# Altium schematic symbol library CiDLib.SchLib: 65 symbols
Pins are listed as number, name and electrical type; pins without a type are passive.

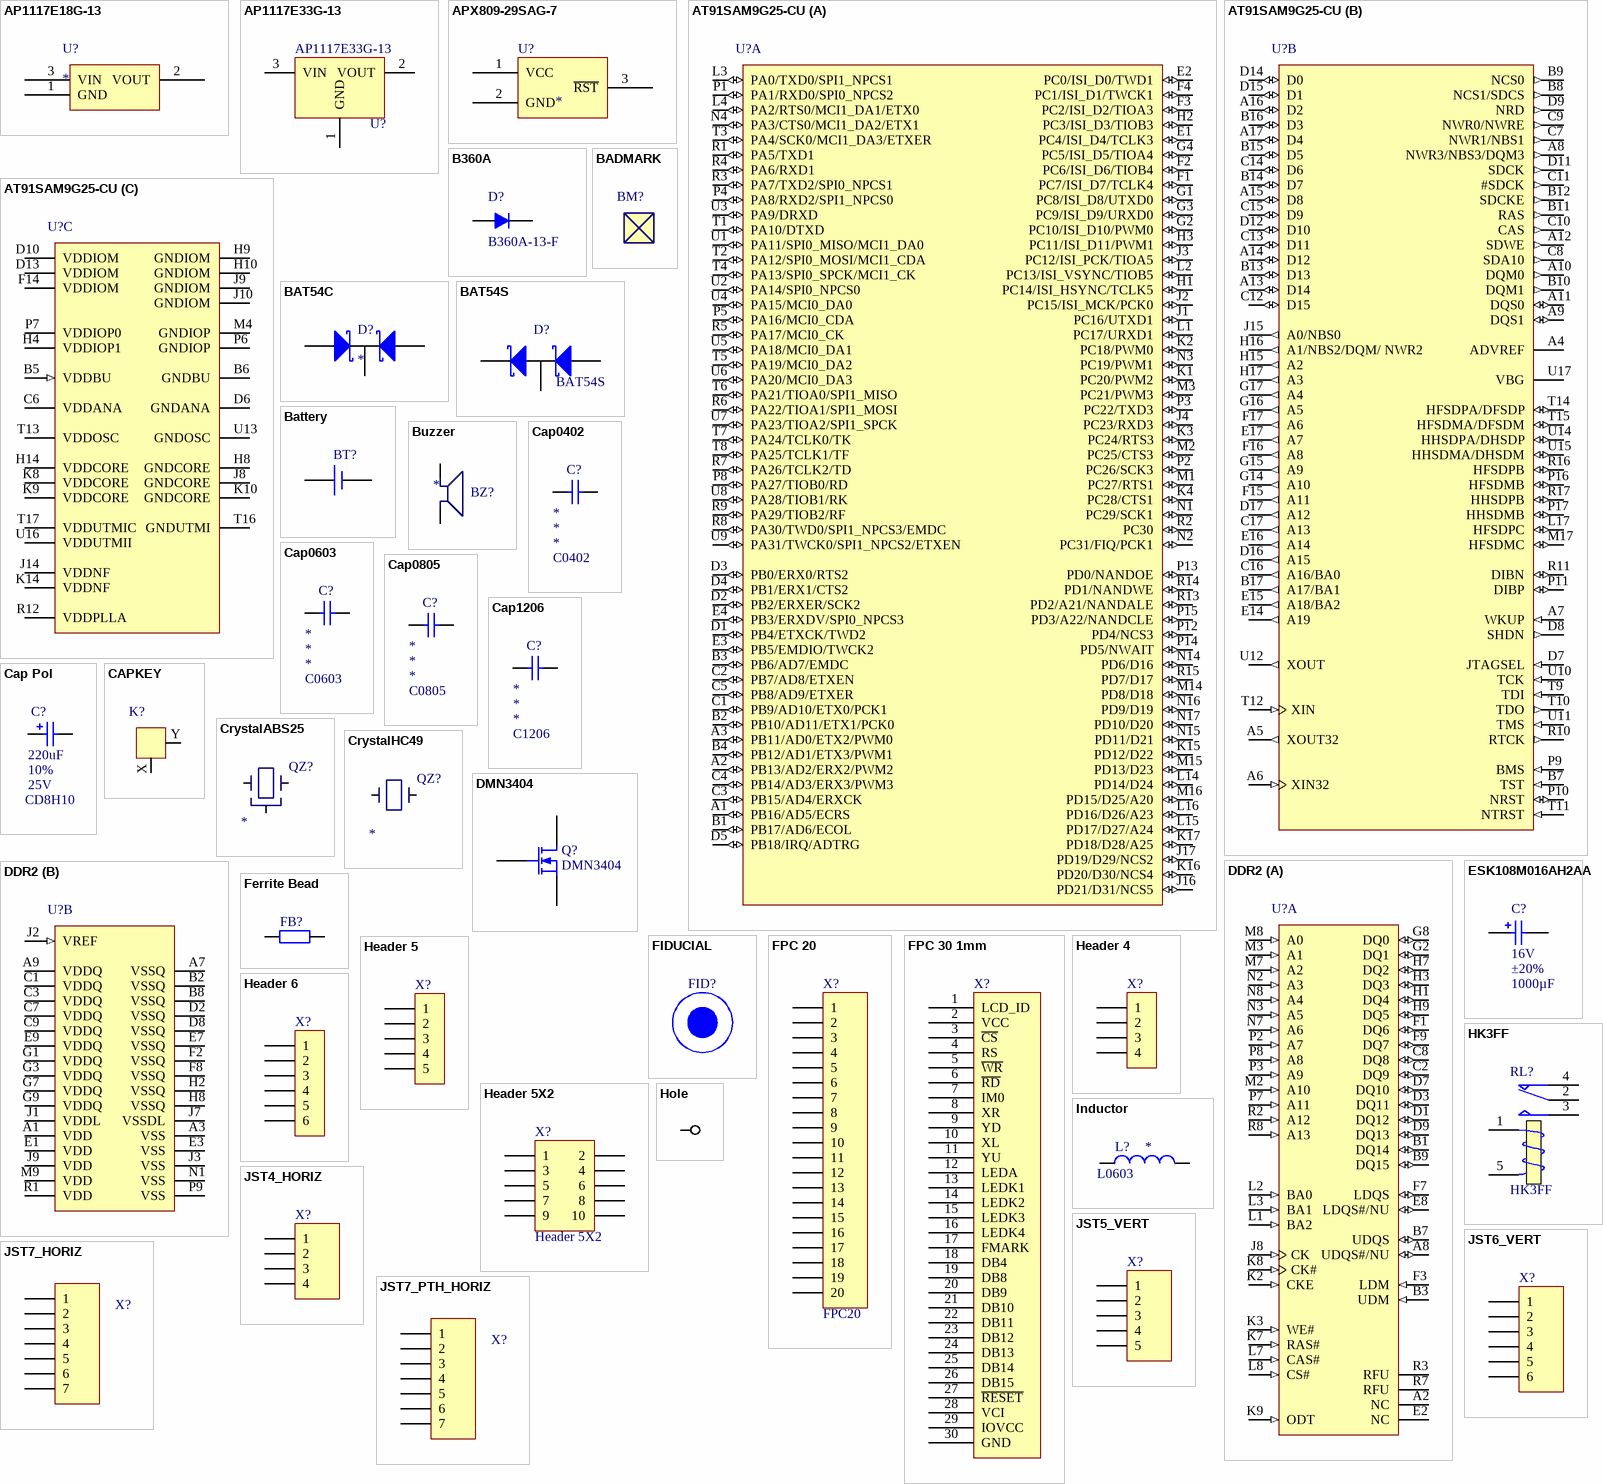
[diagram p0: symbols AP1117E18G-13 to JST7_PTH_HORIZ]

## AP1117E18G-13
designator U?
footprint SOT223 (SOT223, 4-Leads, Body 6,50x7,00mm (avg), Pitch 2,30mm, IPC Medium Density)
pins: 1 GND (power), 2 VOUT (power), 3 VIN (power)

## AP1117E33G-13
designator U?
footprint SOT223 (SOT223, 4-Leads, Body 6,50x7,00mm (avg), Pitch 2,30mm, IPC Medium Density)
pins: 1 GND (power), 2 VOUT (power), 3 VIN (power)

## APX809-29SAG-7
designator U?
Reset supervisor 2.9V
footprint SOT23-3
pins: 1 VCC (power), 2 GND (power), 3 ~{RST}

## AT91SAM9G25-CU
designator U?
AT91 ARM Thumb 32-bit Embedded MPU, 400MHz, 1V, Ethernet, HS USB, LPDDR/DDR2/MLC NAND support, 217-Pin BGA, Industrial Grade (-40°C to 85°C), Pb-Free; GROUP: G25; PackageVersion: 2011; PackageReference: LFBGA217; PackageDescription: 217-Ball Plastic Low Profile Fine-Pitch BGA, 15 x 15 mm Body, 0.8 mm Pitch; Code_JEDEC: MO-205
footprint BGA217
part A pins: A1 PB16/AD5/ECRS (io), A2 PB13/AD2/ERX2/PWM2 (io), A3 PB11/AD0/ETX2/PWM0 (io), B1 PB17/AD6/ECOL (io), B2 PB10/AD11/ETX1/PCK0 (io), B3 PB6/AD7/EMDC (io), B4 PB12/AD1/ETX3/PWM1 (io), C1 PB9/AD10/ETX0/PCK1 (io), C2 PB7/AD8/ETXEN (io), C3 PB15/AD4/ERXCK (io), C4 PB14/AD3/ERX3/PWM3 (io), C5 PB8/AD9/ETXER (io), D1 PB4/ETXCK/TWD2 (io), D2 PB2/ERXER/SCK2 (io), D3 PB0/ERX0/RTS2 (io), D4 PB1/ERX1/CTS2 (io), D5 PB18/IRQ/ADTRG (io), E1 PC4/ISI_D4/TCLK3 (io), E2 PC0/ISI_D0/TWD1 (io), E3 PB5/EMDIO/TWCK2 (io), E4 PB3/ERXDV/SPI0_NPCS3 (io), F1 PC7/ISI_D7/TCLK4 (io), F2 PC6/ISI_D6/TIOB4 (io), F3 PC2/ISI_D2/TIOA3 (io), F4 PC1/ISI_D1/TWCK1 (io), G1 PC8/ISI_D8/UTXD0 (io), G2 PC10/ISI_D10/PWM0 (io), G3 PC9/ISI_D9/URXD0 (io), G4 PC5/ISI_D5/TIOA4 (io), H1 PC14/ISI_HSYNC/TCLK5 (io), H2 PC3/ISI_D3/TIOB3 (io), H3 PC11/ISI_D11/PWM1 (io), J1 PC16/UTXD1 (io), J2 PC15/ISI_MCK/PCK0 (io), J3 PC12/ISI_PCK/TIOA5 (io), J4 PC23/RXD3 (io), J16 PD21/D31/NCS5 (io), J17 PD19/D29/NCS2 (io), K1 PC20/PWM2 (io), K2 PC18/PWM0 (io), K3 PC24/RTS3 (io), K4 PC28/CTS1 (io), K15 PD12/D22 (io), K16 PD20/D30/NCS4 (io), K17 PD18/D28/A25 (io), L1 PC17/URXD1 (io), L2 PC13/ISI_VSYNC/TIOB5 (io), L3 PA0/TXD0/SPI1_NPCS1 (io), L4 PA2/RTS0/MCI1_DA1/ETX0 (io), L14 PD14/D24 (io), L15 PD17/D27/A24 (io), L16 PD16/D26/A23 (io), M1 PC27/RTS1 (io), M2 PC25/CTS3 (io), M3 PC21/PWM3 (io), M14 PD8/D18 (io), M15 PD13/D23 (io), M16 PD15/D25/A20 (io), N1 PC29/SCK1 (io), N2 PC31/FIQ/PCK1 (io), N3 PC19/PWM1 (io), N4 PA3/CTS0/MCI1_DA2/ETX1 (io), N14 PD6/D16 (io), N15 PD11/D21 (io), N16 PD9/D19 (io), N17 PD10/D20 (io), P1 PA1/RXD0/SPI0_NPCS2 (io), P2 PC26/SCK3 (io), P3 PC22/TXD3 (io), P4 PA8/RXD2/SPI1_NPCS0 (io), P5 PA16/MCI0_CDA (io), P8 PA27/TIOB0/RD (io), P12 PD4/NCS3 (io), P13 PD0/NANDOE (io), P14 PD5/NWAIT (io), P15 PD3/A22/NANDCLE (io), R1 PA5/TXD1 (io), R2 PC30 (io), R3 PA7/TXD2/SPI0_NPCS1 (io), R4 PA6/RXD1 (io), R5 PA17/MCI0_CK (io), R6 PA22/TIOA1/SPI1_MOSI (io), R7 PA26/TCLK2/TD (io), R8 PA30/TWD0/SPI1_NPCS3/EMDC (io), R9 PA29/TIOB2/RF (io), R13 PD2/A21/NANDALE (io), R14 PD1/NANDWE (io), R15 PD7/D17 (io), T1 PA10/DTXD (io), T2 PA12/SPI0_MOSI/MCI1_CDA (io), T3 PA4/SCK0/MCI1_DA3/ETXER (io), T4 PA13/SPI0_SPCK/MCI1_CK (io), T5 PA19/MCI0_DA2 (io), T6 PA21/TIOA0/SPI1_MISO (io), T7 PA24/TCLK0/TK (io), T8 PA25/TCLK1/TF (io), U1 PA11/SPI0_MISO/MCI1_DA0 (io), U2 PA14/SPI0_NPCS0 (io), U3 PA9/DRXD (io), U4 PA15/MCI0_DA0 (io), U5 PA18/MCI0_DA1 (io), U6 PA20/MCI0_DA3 (io), U7 PA23/TIOA2/SPI1_SPCK (io), U8 PA28/TIOB1/RK (io), U9 PA31/TWCK0/SPI1_NPCS2/ETXEN (io)
part B pins: A4 ADVREF (power), A5 XOUT32 (out), A6 XIN32 (in), A7 WKUP (in), A8 NWR3/NBS3/DQM3 (out), A9 DQS1 (io), A10 DQM0 (out), A11 DQS0 (io), A12 SDWE (out), A13 D14 (io), A14 D12 (io), A15 D8 (io), A16 D2 (io), A17 D4 (io), B7 TST (in), B8 NCS1/SDCS (out), B9 NCS0 (out), B10 DQM1 (out), B11 RAS (out), B12 SDCKE (out), B13 D13 (io), B14 D7 (io), B15 D5 (io), B16 D3 (io), B17 A17/BA1 (out), C7 NWR1/NBS1 (out), C8 SDA10 (out), C9 NWR0/NWRE (out), C10 CAS (out), C11 #SDCK (out), C12 D15 (io), C13 D11 (io), C14 D6 (io), C15 D9 (io), C16 A16/BA0 (out), C17 A13 (out), D7 JTAGSEL (in), D8 SHDN (out), D9 NRD (out), D11 SDCK (out), D12 D10 (io), D14 D0 (io), D15 D1 (io), D16 A15 (out), D17 A12 (out), E14 A19 (out), E15 A18/BA2 (out), E16 A14 (out), E17 A7 (out), F15 A11 (out), F16 A8 (out), F17 A6 (out), G14 A10 (out), G15 A9 (out), G16 A5 (out), G17 A4 (out), H15 A2 (out), H16 A1/NBS2/DQM/ NWR2 (out), H17 A3 (out), J15 A0/NBS0 (out), L17 HFSDPC (io), M17 HFSDMC (io), P9 BMS (in), P10 NRST (io), P11 DIBP (io), P16 HFSDMB (io), P17 HHSDMB (io), R10 RTCK (out), R11 DIBN (io), R16 HFSDPB (io), R17 HHSDPB (io), T9 TDI (in), T10 TDO (out), T11 NTRST (in), T12 XIN (in), T14 HFSDPA/DFSDP (io), T15 HFSDMA/DFSDM (io), U10 TCK (in), U11 TMS (in), U12 XOUT (out), U14 HHSDPA/DHSDP (io), U15 HHSDMA/DHSDM (io), U17 VBG (power)
part C pins: B5 VDDBU (in), B6 GNDBU (power), C6 VDDANA (power), D6 GNDANA (power), D10 VDDIOM (power), D13 VDDIOM (power), F14 VDDIOM (power), H4 VDDIOP1 (power), H8 GNDCORE (power), H9 GNDIOM (power), H10 GNDIOM (power), H14 VDDCORE (power), J8 GNDCORE (power), J9 GNDIOM (power), J10 GNDIOM (power), J14 VDDNF (power), K8 VDDCORE (power), K9 VDDCORE (power), K10 GNDCORE (power), K14 VDDNF (power), M4 GNDIOP (power), P6 GNDIOP (power), P7 VDDIOP0 (power), R12 VDDPLLA (power), T13 VDDOSC (power), T16 GNDUTMI (power), T17 VDDUTMIC (power), U13 GNDOSC (power), U16 VDDUTMII (power)

## B360A
designator D?, comment B360A-13-F
B360A Diode; Manufacturer: Diodes Incorporated; Diode Type: Schottky; Voltage - DC Reverse (Vr) (Max): 60V; Current - Average Rectified (Io): 3A; Voltage - Forward (Vf) (Max) @ If: 700mV @ 3A; Speed: Fast Recovery =< 500ns, > 200mA (Io); Current - Reverse Leakage @ Vr: 500µA @ 60V; Capacitance @ Vr, F: 200pF @ 4V, 1MHz; Supplier 1: Digi-Key; Manufacturer Part Number: B360A-13-F; RoHS: RoHS Compliant; Category: Discrete Semiconductor Products; Stock 1: 132804; Pricing 1: 1=0.5, 10=0.394, 25=0.3324, 100=0.2708, 250=0.22424, 500=0.18526, 1000=0.13875, 2500=0.1275 (USD); Packaging: Cut Tape (CT); Reverse Recovery Time (trr): -; Mounting Type: Surface Mount; Package / Case: DO-214AC, SMA; Supplier Device Package: SMA; Operating Temperature - Junction: -55°C ~ 150°C; ComponentLink1URL: http://www.diodes.com/_files/datasheets/ds30891.pdf; ComponentLink1Description: http://www.diodes.com/_files/datasheets/ds30891.pdf; Supplier Part Number 1: B360A-FDICT-ND
footprint SMA
pins: 1 A, 2 K

## BADMARK
designator BM?  (value not drawn)
Bad Mark Indicator
footprint BADMARK

## BAT54C
designator D?
Common cathode dual Schottky diode; Supplier 1: Digi-Key; Supplier Part Number 1: BAT54C-FDITR-ND
footprint SOT23-3
pins: 1 K, 2 A1, 3 A2

## BAT54S
designator D?
DIODE ARRAY SCHOTTKY 30V SOT23
footprint SOT23-3
pins: 1 K, 2 A2, 3 A1

## Battery
designator BT?
Multicell Battery; Published: 24-Mar-1999; LatestRevisionDate: 17-Jul-2002; LatestRevisionNote: Re-released for DXP Platform.; PackageReference: BAT-2; Publisher: Altium Limited; PackageDescription: Battery; 2 Leads
footprint CR2032-SMD (CR2032 Battery holder (SMD))
pins: 1 + (power), 2 - (power)

## Buzzer
designator BZ?
Standard PTH Buzzer
footprint Buzzer
pins: 1, 2

## Cap0402
designator C?  (value not drawn)
Capacitor; Value: *; Tolerance: *; MAX VDC: *
simulation model CAP (Capacitor)
signal-integrity model Cap
footprint C0402 (Chip Capacitor, 2-Leads, Body 1,00x0,50mm, IPC Medium Density)
pins: 1, 2

## Cap0603
designator C?  (value not drawn)
Capacitor; Value: *; Tolerance: *; MAX VDC: *
simulation model CAP (Capacitor)
signal-integrity model Cap
footprint C0603 (Chip Capacitor, 2-Leads, Body 1,60x0,80mm, IPC Medium Density)
pins: 1, 2

## Cap0805
designator C?  (value not drawn)
Capacitor; Value: *; Tolerance: *; MAX VDC: *
simulation model CAP (Capacitor)
signal-integrity model Cap
footprint C0805 (Chip Capacitor, 2-Leads, Body 2,00x1,25mm, IPC Medium Density)
pins: 1, 2

## Cap1206
designator C?  (value not drawn)
Capacitor; Value: *; Tolerance: *; MAX VDC: *
simulation model CAP (Capacitor)
signal-integrity model Cap
footprint C1206 (Chip Capacitor, 2-Leads, Body 3,20x1,60mm, IPC Medium Density)
pins: 1, 2

## Cap Pol
designator C?  value 220uF  Tolerance: 10%  MAX VDC: 25V  (hidden comment: Cap Pol)
Polarized Capacitor
simulation model CAP (Capacitor)
signal-integrity model Cap Pol ([Unknown model type, plugin missing])
footprint CD8H10 (Aluminum Electrolytic Capacitor, Body 8,30x8,30x10,50mm, IPC Medium Density)
pins: 1, 2
1 alternate drawing of the same symbol

## CAPKEY
designator K?  (value not drawn)
Capacitive touch key
footprint CAPKEY
pins: X (power), Y (power)

## CrystalABS25
designator QZ?
ABS25-32.768KHZ-T; Value: *
footprint ABS25 (Crystal 32.768kHz)
pins: 1 X1, 4 X2, G X1

## CrystalHC49
designator QZ?
Value: *
footprint HC49
pins: 1 X1, 2 X2

## DDR2
designator U?
DDR2 Memory; GROUP: MT47H
footprint BGA84
part A pins: A2 NC "No connect: These balls should be left unconnected.", A8 UDQS#/NU (io) "Data strobe for upper byte: Output with read data, input with write data for source synchronous operation. Edge-aligned with read data, center-aligned with write data. UDQS# is only used when differential data strobe mode is (See Datasheet)", B1 DQ14 (io) "Data input/output: Bidirectional data bus for 128 Meg x 16.", B3 UDM (in) "Input data mask: DM is an input mask signal for write data. Input data is masked when DM is concurrently sampled HIGH during a WRITE access. DM is sampled on both edges of DQS. Although DM balls are input-only, the DM (See Datasheet)", B7 UDQS (io) "Data strobe for upper byte: Output with read data, input with write data for source synchronous operation. Edge-aligned with read data, center-aligned with write data. UDQS# is only used when differential data strobe mode is (See Datasheet)", B9 DQ15 (io) "Data input/output: Bidirectional data bus for 128 Meg x 16.", C2 DQ9 (io) "Data input/output: Bidirectional data bus for 128 Meg x 16.", C8 DQ8 (io) "Data input/output: Bidirectional data bus for 128 Meg x 16.", D1 DQ12 (io) "Data input/output: Bidirectional data bus for 128 Meg x 16.", D3 DQ11 (io) "Data input/output: Bidirectional data bus for 128 Meg x 16.", D7 DQ10 (io) "Data input/output: Bidirectional data bus for 128 Meg x 16.", D9 DQ13 (io) "Data input/output: Bidirectional data bus for 128 Meg x 16.", E2 NC "No connect: These balls should be left unconnected.", E8 LDQS#/NU (io) "Data strobe for lower byte: Output with read data, input with write data for source synchronous operation. Edge-aligned with read data, center-aligned with write data. LDQS# is only used when differential data strobe mode is (See Datasheet)", F1 DQ6 (io) "Data input/output: Bidirectional data bus for 128 Meg x 16.", F3 LDM (in) "Input data mask: DM is an input mask signal for write data. Input data is masked when DM is concurrently sampled HIGH during a WRITE access. DM is sampled on both edges of DQS. Although DM balls are input-only, the DM (See Datasheet)", F7 LDQS (io) "Data strobe for lower byte: Output with read data, input with write data for source synchronous operation. Edge-aligned with read data, center-aligned with write data. LDQS# is only used when differential data strobe mode is (See Datasheet)", F9 DQ7 (io) "Data input/output: Bidirectional data bus for 128 Meg x 16.", G2 DQ1 (io) "Data input/output: Bidirectional data bus for 128 Meg x 16.", G8 DQ0 (io) "Data input/output: Bidirectional data bus for 128 Meg x 16.", H1 DQ4 (io) "Data input/output: Bidirectional data bus for 128 Meg x 16.", H3 DQ3 (io) "Data input/output: Bidirectional data bus for 128 Meg x 16.", H7 DQ2 (io) "Data input/output: Bidirectional data bus for 128 Meg x 16.", H9 DQ5 (io) "Data input/output: Bidirectional data bus for 128 Meg x 16.", J8 CK (in) "Clock: CK and CK# are differential clock inputs. All address and control input signals are sampled on the crossing of the positive edge of CK and negative edge of CK#. Output data (DQ and DQS/DQS#) is referenced to the (See Datasheet)", K2 CKE (in) "Clock enable: CKE (registered HIGH) activates and CKE (registered LOW) deactivates clocking circuitry on the DDR2 SDRAM. The specific circuitry that is enabled/disabled is dependent on the DDR2 SDRAM configuration and (See Datasheet)", K3 WE# (in) "Command inputs: RAS#, CAS#, and WE# (along with CS#) define the command being entered.", K7 RAS# (in) "Command inputs: RAS#, CAS#, and WE# (along with CS#) define the command being entered.", K8 CK# (in) "Clock: CK and CK# are differential clock inputs. All address and control input signals are sampled on the crossing of the positive edge of CK and negative edge of CK#. Output data (DQ and DQS/DQS#) is referenced to the (See Datasheet)", K9 ODT (in) "On-die termination: ODT (registered HIGH) enables termination resistance internal to the DDR2 SDRAM. When enabled, ODT is only applied to each of the following balls: DQ[15:0], LDM, UDM, LDQS, LDQS#, UDQS, and UDQS# for the (See Datasheet)", L1 BA2 (in) "Bank address inputs: BA[2:0] define to which bank an ACTIVE, READ, WRITE, or PRECHARGE command is being applied. BA[2:0] define which mode register, including MR, EMR, EMR(2), and EMR(3), is loaded during the LOAD MODE (See Datasheet)", L2 BA0 (in) "Bank address inputs: BA[2:0] define to which bank an ACTIVE, READ, WRITE, or PRECHARGE command is being applied. BA[2:0] define which mode register, including MR, EMR, EMR(2), and EMR(3), is loaded during the LOAD MODE (See Datasheet)", L3 BA1 (in) "Bank address inputs: BA[2:0] define to which bank an ACTIVE, READ, WRITE, or PRECHARGE command is being applied. BA[2:0] define which mode register, including MR, EMR, EMR(2), and EMR(3), is loaded during the LOAD MODE (See Datasheet)", L7 CAS# (in) "Command inputs: RAS#, CAS#, and WE# (along with CS#) define the command being entered.", L8 CS# (in) "Chip select: CS# enables (registered LOW) and disables (registered HIGH) the command decoder. All commands are masked when CS# is registered high. CS# provides for external bank selection on systems with multiple ranks. CS# (See Datasheet)", M2 A10 (in) "Address inputs: Provide the row address for ACTIVE commands, and the column address and auto precharge bit (A10) for READ/WRITE commands, to select one location out of the memory array in the respective bank. A10 sampled (See Datasheet)", M3 A1 (in) "Address inputs: Provide the row address for ACTIVE commands, and the column address and auto precharge bit (A10) for READ/WRITE commands, to select one location out of the memory array in the respective bank. A10 sampled (See Datasheet)", M7 A2 (in) "Address inputs: Provide the row address for ACTIVE commands, and the column address and auto precharge bit (A10) for READ/WRITE commands, to select one location out of the memory array in the respective bank. A10 sampled (See Datasheet)", M8 A0 (in) "Address inputs: Provide the row address for ACTIVE commands, and the column address and auto precharge bit (A10) for READ/WRITE commands, to select one location out of the memory array in the respective bank. A10 sampled (See Datasheet)", N2 A3 (in) "Address inputs: Provide the row address for ACTIVE commands, and the column address and auto precharge bit (A10) for READ/WRITE commands, to select one location out of the memory array in the respective bank. A10 sampled (See Datasheet)", N3 A5 (in) "Address inputs: Provide the row address for ACTIVE commands, and the column address and auto precharge bit (A10) for READ/WRITE commands, to select one location out of the memory array in the respective bank. A10 sampled (See Datasheet)", N7 A6 (in) "Address inputs: Provide the row address for ACTIVE commands, and the column address and auto precharge bit (A10) for READ/WRITE commands, to select one location out of the memory array in the respective bank. A10 sampled (See Datasheet)", N8 A4 (in) "Address inputs: Provide the row address for ACTIVE commands, and the column address and auto precharge bit (A10) for READ/WRITE commands, to select one location out of the memory array in the respective bank. A10 sampled (See Datasheet)", P2 A7 (in) "Address inputs: Provide the row address for ACTIVE commands, and the column address and auto precharge bit (A10) for READ/WRITE commands, to select one location out of the memory array in the respective bank. A10 sampled (See Datasheet)", P3 A9 (in) "Address inputs: Provide the row address for ACTIVE commands, and the column address and auto precharge bit (A10) for READ/WRITE commands, to select one location out of the memory array in the respective bank. A10 sampled (See Datasheet)", P7 A11 (in) "Address inputs: Provide the row address for ACTIVE commands, and the column address and auto precharge bit (A10) for READ/WRITE commands, to select one location out of the memory array in the respective bank. A10 sampled (See Datasheet)", P8 A8 (in) "Address inputs: Provide the row address for ACTIVE commands, and the column address and auto precharge bit (A10) for READ/WRITE commands, to select one location out of the memory array in the respective bank. A10 sampled (See Datasheet)", R2 A12 (in) "Address inputs: Provide the row address for ACTIVE commands, and the column address and auto precharge bit (A10) for READ/WRITE commands, to select one location out of the memory array in the respective bank. A10 sampled (See Datasheet)", R3 RFU "Reserved for future use: Row address bits A14 (R3), A15 (R7) on the x16, and A15 (L7) on the x4/x8.", R7 RFU "Reserved for future use: Row address bits A14 (R3), A15 (R7) on the x16, and A15 (L7) on the x4/x8.", R8 A13 (in) "Address inputs: Provide the row address for ACTIVE commands, and the column address and auto precharge bit (A10) for READ/WRITE commands, to select one location out of the memory array in the respective bank. A10 sampled (See Datasheet)"
part B pins: A1 VDD (power) "Power supply: 1.8V +/-0.1V.", A3 VSS (power) "Ground.", A7 VSSQ (power) "DQ ground: Isolated on the device for improved noise immunity.", A9 VDDQ (power) "DQ power supply: 1.8V +/-0.1V. Isolated on the device for improved noise immunity.", B2 VSSQ (power) "DQ ground: Isolated on the device for improved noise immunity.", B8 VSSQ (power) "DQ ground: Isolated on the device for improved noise immunity.", C1 VDDQ (power) "DQ power supply: 1.8V +/-0.1V. Isolated on the device for improved noise immunity.", C3 VDDQ (power) "DQ power supply: 1.8V +/-0.1V. Isolated on the device for improved noise immunity.", C7 VDDQ (power) "DQ power supply: 1.8V +/-0.1V. Isolated on the device for improved noise immunity.", C9 VDDQ (power) "DQ power supply: 1.8V +/-0.1V. Isolated on the device for improved noise immunity.", D2 VSSQ (power) "DQ ground: Isolated on the device for improved noise immunity.", D8 VSSQ (power) "DQ ground: Isolated on the device for improved noise immunity.", E1 VDD (power) "Power supply: 1.8V +/-0.1V.", E3 VSS (power) "Ground.", E7 VSSQ (power) "DQ ground: Isolated on the device for improved noise immunity.", E9 VDDQ (power) "DQ power supply: 1.8V +/-0.1V. Isolated on the device for improved noise immunity.", F2 VSSQ (power) "DQ ground: Isolated on the device for improved noise immunity.", F8 VSSQ (power) "DQ ground: Isolated on the device for improved noise immunity.", G1 VDDQ (power) "DQ power supply: 1.8V +/-0.1V. Isolated on the device for improved noise immunity.", G3 VDDQ (power) "DQ power supply: 1.8V +/-0.1V. Isolated on the device for improved noise immunity.", G7 VDDQ (power) "DQ power supply: 1.8V +/-0.1V. Isolated on the device for improved noise immunity.", G9 VDDQ (power) "DQ power supply: 1.8V +/-0.1V. Isolated on the device for improved noise immunity.", H2 VSSQ (power) "DQ ground: Isolated on the device for improved noise immunity.", H8 VSSQ (power) "DQ ground: Isolated on the device for improved noise immunity.", J1 VDDL (power) "DLL power supply: 1.8V +/-0.1V.", J2 VREF (in) "SSTL_18 reference voltage.", J3 VSS (power) "Ground.", J7 VSSDL (power) "DLL ground: Isolated on the device from VSS and VSSQ.", J9 VDD (power) "Power supply: 1.8V +/-0.1V.", M9 VDD (power) "Power supply: 1.8V +/-0.1V.", N1 VSS (power) "Ground.", P9 VSS (power) "Ground.", R1 VDD (power) "Power supply: 1.8V +/-0.1V."

## DMN3404
designator Q?
DMN3404 N-Channel MOSFET; Supplier 1: Digi-Key; Supplier Part Number 1: DMN3404LDICT-ND
footprint SOT23-3
pins: 1 D, 2 G, 3 S

## ESK108M016AH2AA
designator C?  Capacitance: 1000µF  Tolerance: ±20%  Voltage Rating: 16V  (hidden comment: *)
CAP ALUM 1000UF 20% 16V RADIAL; Manufacturer: Kemet; Manufacturer Part Number: ESK108M016AH2AA; Lifetime @ Temp.: 2000 Hrs @ 85°C; Polarization: Polar; Ripple Current: 630mA @ 120Hz; Supplier 1: Digi-Key; RoHS: RoHS Compliant; Category: Capacitors; Stock 1: 2866; Pricing 1: 1=0.43, 10=0.298, 50=0.2086, 100=0.1788, 250=0.149, 500=0.1341, 1000=0.11324, 2500=0.10728, 5000=0.10132 (USD); Packaging: Bulk; ESR (Equivalent Series Resistance): -; Operating Temperature: -40°C ~ 85°C; Applications: General Purpose; Impedance: -; Lead Spacing: 0.197" (5.00mm); Size / Dimension: 0.394" Dia (10.00mm); Height - Seated (Max): 0.669" (17.00mm); Surface Mount Land Size: -; Mounting Type: Through Hole; Package / Case: Radial, Can; ComponentLink1URL: http://capacitoredge.kemet.com/capedge2/DataSheet?pn=ESK108M016AH2AA; ComponentLink1Description: http://capacitoredge.kemet.com/capedge2/DataSheet?pn=ESK108M016AH2AA; Supplier Part Number 1: 399-6106-ND
footprint ESK108M016AH2AA (CAP ALUM 1000UF 20% 16V RADIAL)
pins: 1, 2

## Ferrite Bead
designator FB?  (value not drawn)
footprint FB0402
pins: 1, 2

## FIDUCIAL
designator FID?  (value not drawn)
Standard fiducial for Control iD boards
footprint FIDUCIAL-1.5X3

## FPC 20
designator X?, comment FPC20
FPC, 20-Pin
footprint 0.5A-20PB
pins: 1, 2, 3, 4, 5, 6, 7, 8, 9, 10, 11, 12, 13, 14, 15, 16, 17, 18, 19, 20

## FPC 30 1mm
designator X?  (value not drawn)
Horizontal FPC 30 positions 1mm pitch
footprint FPC_Horizontal_30_1mm (Horizontal FPC connector with 30 leads and 1mm pitch)
footprint FPC_Horizontal_30_1mm-INVERTED (Horizontal FPC connector with 30 leads and 1mm pitch)
pins: 1 LCD_ID, 2 VCC, 3 ~{CS}, 4 RS, 5 ~{WR}, 6 ~{RD}, 7 IM0, 8 XR, 9 YD, 10 XL, 11 YU, 12 LEDA, 13 LEDK1, 14 LEDK2, 15 LEDK3, 16 LEDK4, 17 FMARK, 18 DB4, 19 DB8, 20 DB9, 21 DB10, 22 DB11, 23 DB12, 24 DB13, 25 DB14, 26 DB15, 27 ~{RESET}, 28 VCI, 29 IOVCC, 30 GND

## Header 4
designator X?  (value not drawn)
Header, 4-Pin, Single row, 0.1"
footprint 1X04
pins: 1, 2, 3, 4

## Header 5
designator X?  (value not drawn)
Header, 5-Pin, Single row, 0.1"
footprint 1X05
pins: 1, 2, 3, 4, 5

## Header 5X2
designator X?
Header, 5-Pin, Dual row
footprint HEADER2x5 1.27
pins: 1, 2, 3, 4, 5, 6, 7, 8, 9, 10

## Header 6
designator X?  (value not drawn)
Header, 6-Pin, Single row, 0.1"
footprint 1X06
pins: 1, 2, 3, 4, 5, 6

## HK3FF
designator RL?
SPDT Relay HK3FF
pins: 1 T1, 2 COM, 3 NO, 4 NC, 5 T2

## Hole
designator HOLE?  (value not drawn)
footprint Hole (PTH Hole for wire soldering)
pins: 1

## Inductor
designator L?  (value not drawn)
Value: *
simulation model INDUCTOR (Inductor)
signal-integrity model Inductor
footprint L0603
pins: 1, 2

## JST4_HORIZ
designator X?  (value not drawn)
Header, 4-Pin
footprint JST4_HORIZ (SMT Horizontal JST 4 leads connector)
pins: 1, 2, 3, 4

## JST5_VERT
designator X?  (value not drawn)
Header, 5-Pin
pins: 1, 2, 3, 4, 5

## JST6_VERT
designator X?  (value not drawn)
Header, 6-Pin
pins: 1, 2, 3, 4, 5, 6

## JST7_HORIZ
designator X?  (value not drawn)
footprint JST7_HORIZ
pins: 1, 2, 3, 4, 5, 6, 7

## JST7_PTH_HORIZ
designator X?  (value not drawn)
footprint JST7_PTH_HORIZ
pins: 1, 2, 3, 4, 5, 6, 7

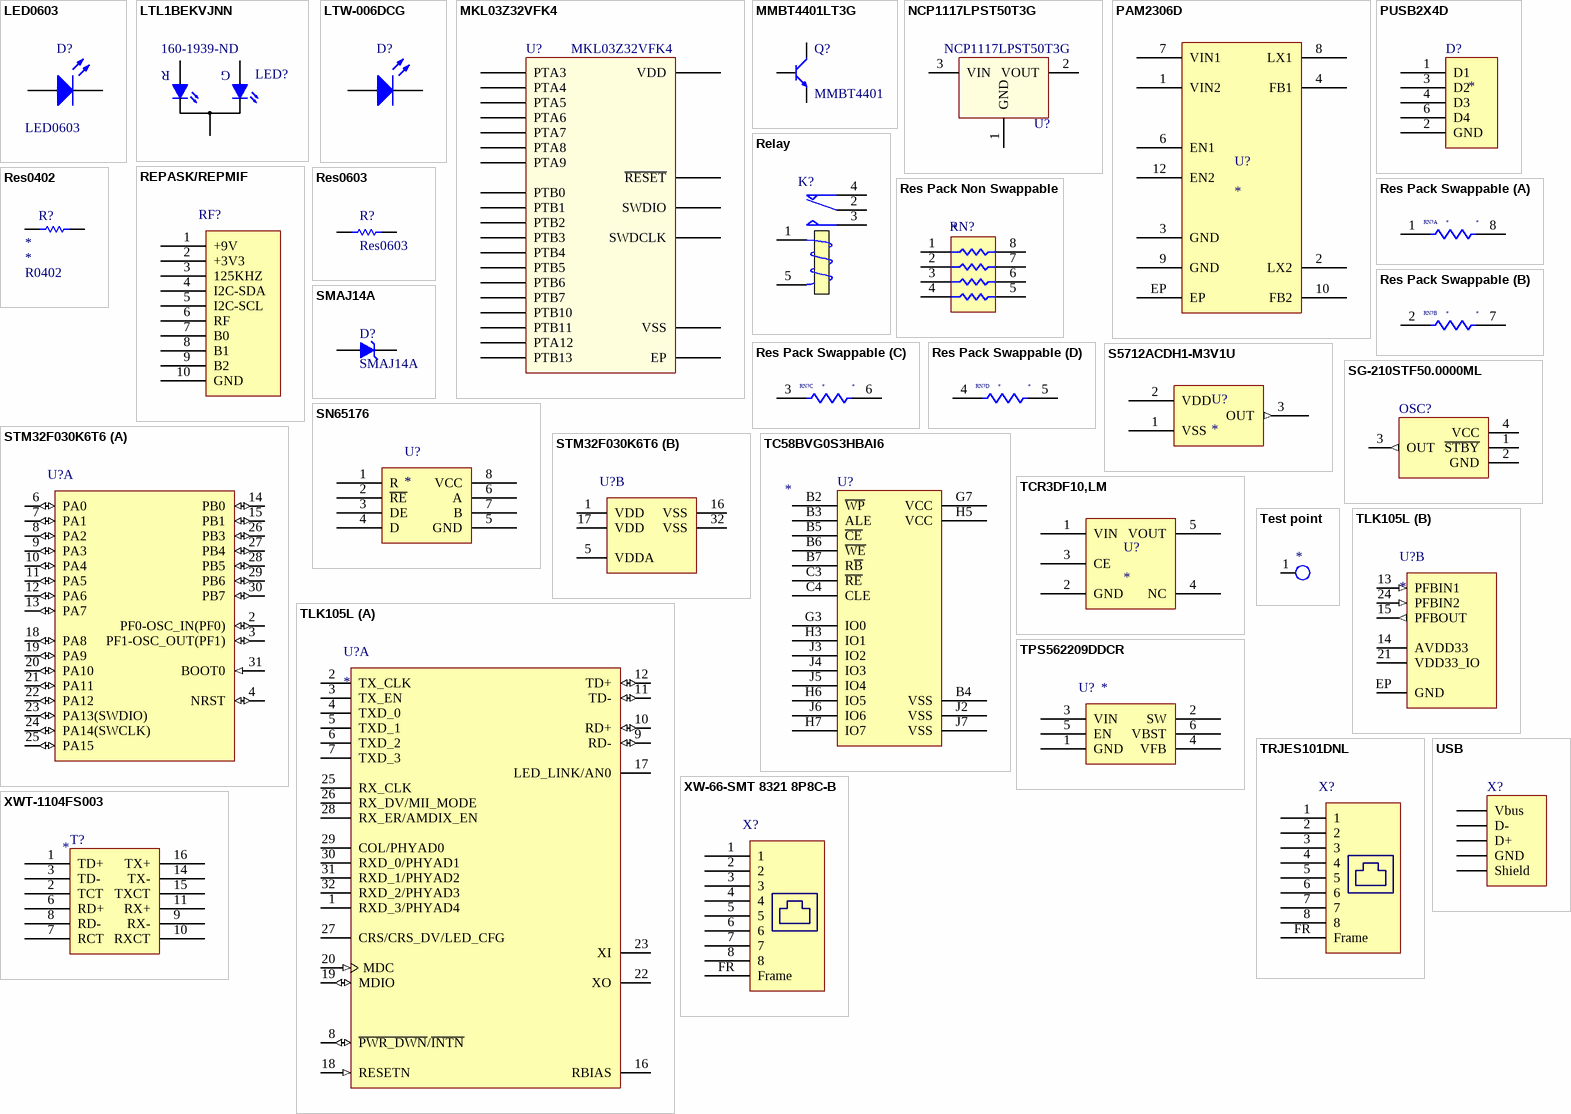
[diagram p1: symbols LED0603 to XWT-1104FS003]

## LED0603
designator D?  (value not drawn)
Light-Emitting Diode
footprint LED0603
pins: 1 A, 2 K

## LTL1BEKVJNN
designator LED?  Supplier Part Number 1: 160-1939-ND  (hidden comment: LTL1BEKVJNN)
LED GRN/RED DIFF 3MM ROUND T/H; Manufacturer: Lite-On Inc.; Color: Green, Red; Lens Color: White; Lens Transparency: Diffused; Millicandela Rating: 110mcd Green, 110mcd Red; Lens Style/Size: Round with Domed Top, 3.00mm; Voltage - Forward (Vf) (Typ): 2.1V Green, 2V Red; Current - Test: 20mA Green, 20mA Red; Viewing Angle: 45°; Wavelength - Dominant: 572nm Green, 631nm Red; Wavelength - Peak: 575nm Green, 639nm Red; Supplier 1: Digi-Key; Manufacturer Part Number: LTL1BEKVJNN; RoHS: RoHS Compliant; Category: Optoelectronics; Stock 1: 19364; Pricing 1: 1=0.47, 10=0.332, 100=0.2216, 250=0.18004, 500=0.13296, 1000=0.1108, 2500=0.09972, 5000=0.09418, 10000=0.08587 (USD); Packaging: Bulk; Mounting Type: Through Hole; Features: -; Package / Case: Radial - 3 Leads; Supplier Device Package: -; Size / Dimension: -; Height (Max): 5.15mm; ComponentLink1URL: http://optoelectronics.liteon.com/upload/download/DS20-2001-645/S_110_LTL1BEKVJNN.pdf; ComponentLink1Description: http://optoelectronics.liteon.com/upload/download/DS20-2001-645/S_110_LTL1BEKVJNN.pdf
footprint LTL1BEKVJNN (LED GRN/RED DIFF 3MM ROUND T/H)
pins: 1 AR, 2 K, 3 AG
text: R; G

## LTW-006DCG
designator D?  (value not drawn)
Light-Emitting Diode (side-emitting)
pins: 1 A, 2 K

## MKL03Z32VFK4
designator U?
IC MCU 32BIT 32KB FLASH 24QFN
footprint QFN24
pins: 1 PTB6, 2 PTB7, 3 VDD, 4 VSS, 5 PTA3, 6 PTA4, 7 PTA5, 8 PTA6, 9 PTB10, 10 PTB11, 11 PTA7, 12 PTB0, 13 PTB1, 14 PTB2, 15 PTA8, 16 PTA9, 17 PTB3, 18 PTB4, 19 PTB5, 20 PTA12, 21 PTB13, 22 SWDCLK, 23 ~{RESET}, 24 SWDIO, 25 EP

## MMBT4401LT3G
designator Q?, comment MMBT4401
TRANS NPN 40V 0.6A SOT-23; Manufacturer: ON Semiconductor; Manufacturer Part Number: MMBT4401LT3G; Current - Collector (Ic) (Max): 600mA; Vce Saturation (Max) @ Ib, Ic: 750mV @ 50mA, 500mA; DC Current Gain (hFE) (Min) @ Ic, Vce: 100 @ 150mA, 1V; Power - Max: 300mW; Frequency - Transition: 250MHz; Supplier 1: Digi-Key; RoHS: RoHS Compliant; Category: Discrete Semiconductor Products; Stock 1: 30383; Pricing 1: 1=0.11, 10=0.097, 100=0.0531, 500=0.03262, 1000=0.02225 (USD); Packaging: Cut Tape (CT); Transistor Type: NPN; Voltage - Collector Emitter Breakdown (Max): 40V; Current - Collector Cutoff (Max): -; Mounting Type: Surface Mount; Package / Case: TO-236-3, SC-59, SOT-23-3; Supplier Device Package: SOT-23-3 (TO-236); ComponentLink1URL: http://www.onsemi.com/pub_link/Collateral/MMBT4401LT1-D.PDF; ComponentLink1Description: http://www.onsemi.com/pub_link/Collateral/MMBT4401LT1-D.PDF; Supplier Part Number 1: MMBT4401LT3GOSCT-ND
footprint SOT23-3
pins: 1, 2, 3

## NCP1117LPST50T3G
designator U?
IC REG LDO 5V 1A SOT223; Manufacturer: ON Semiconductor; Regulator Topology: Positive Fixed; Voltage - Dropout (Typical): 1.3V @ 1A; Number of Regulators: 1; Voltage - Input: Up to 18V; Current - Limit (Min): 1.1A; Supplier 1: Digi-Key; Manufacturer Part Number: NCP1117LPST50T3G; RoHS: RoHS Compliant; Category: Integrated Circuits (ICs); Stock 1: 6004; Pricing 1: 1=0.45, 10=0.362, 100=0.2468, 500=0.18476, 1000=0.13838 (USD); Packaging: Cut Tape (CT); Voltage - Output: 5V; Current - Output: 1A; Operating Temperature: 0°C ~ 125°C; Mounting Type: Surface Mount; Package / Case: TO-261-4, TO-261AA; Supplier Device Package: SOT-223; ComponentLink1URL: http://www.onsemi.com/pub_link/Collateral/NCP1117LP-D.PDF; ComponentLink1Description: http://www.onsemi.com/pub_link/Collateral/NCP1117LP-D.PDF; Supplier Part Number 1: NCP1117LPST50T3GOSCT-ND
footprint SOT223 (SOT223, 4-Leads, Body 6,50x7,00mm (avg), Pitch 2,30mm, IPC Medium Density)
pins: 1 GND (power), 2 VOUT (power), 3 VIN (power)

## PAM2306D
designator U?
Dual switching Step-Down regulator; Supplier 1: Digi-Key; Supplier Part Number 1: PAM2306DYPAADICT-ND
pins: 1 VIN2 (power), 2 LX2, 3 GND (power), 4 FB1, 6 EN1, 7 VIN1 (power), 8 LX1, 9 GND (power), 10 FB2, 12 EN2, EP (power)

## PUSB2X4D
designator D?
USB ESD protection diodes; Supplier 1: Digi-Key; Supplier Part Number 1: 568-12620-1-ND
footprint SOT457 (SC-74)
pins: 1 D1, 2 GND, 3 D2, 4 D3, 6 D4

## Relay
designator K?
SPDT Relay; Published: 8-Jun-2000; LatestRevisionDate: 17-Jul-2002; LatestRevisionNote: Re-released for DXP Platform.; PackageReference: MODULE5B; Publisher: Altium Limited
footprint RELE
pins: 1 T1, 2 COM, 3 NO, 4 NC, 5 T2

## REPASK/REPMIF
designator RF?  (value not drawn)
Control iD RF Module
footprint REPASK_REPMIF - SMD
footprint REPASK_REPMIF
pins: 1 +9V, 2 +3V3, 3 125KHZ, 4 I2C-SDA, 5 I2C-SCL, 6 RF, 7 B0, 8 B1, 9 B2, 10 GND

## Res0402
designator R?  (value not drawn)
Resistor; Value: *; Tolerance: *
simulation model RESISTOR (Resistor)
signal-integrity model Res
footprint R0402
pins: 1, 2

## Res0603
designator R?
Resistor; Tolerance: *
footprint R0603 (Chip Resistor, 2-Leads, Body 1.60x0.80mm, IPC Medium Density)
pins: 1, 2

## Res Pack Non Swappable
designator RN?
Isolated Resistor Network; Value: *
footprint RN0804 (Chip Array, ConvexS, 8-Leads, Pitch 0,50mm,  Body 2,00x1,00mm,  IPC Medium Density)
pins: 1, 2, 3, 4, 5, 6, 7, 8

## Res Pack Swappable
designator RN?  (value not drawn)
Isolated Resistor Network - Parts; GROUP: *; Value: *
footprint RN0804 (Chip Array, ConvexS, 8-Leads, Pitch 0,50mm,  Body 2,00x1,00mm,  IPC Medium Density)
part A pins: 1, 8
part B pins: 2, 7
part C pins: 3, 6
part D pins: 4, 5

## S5712ACDH1-M3V1U
designator U?
Hall effect sensor from Seiko
footprint SOT23-3
pins: 1 VSS (power), 2 VDD (power), 3 OUT (out)

## SG-210STF50.0000ML
designator OSC?  (value not drawn)
Seiko Epson 50MHz Oscillator
footprint XTAL-2.5X2MM-EPSON
pins: 1 ~{STBY}, 2 GND (power), 3 OUT (out), 4 VCC (power)

## SMAJ14A
designator D?
TVS DIODE 14VWM 23.2VC SMA; Manufacturer: Littelfuse Inc.; Type: Zener; Unidirectional Channels: 1; Voltage - Reverse Standoff (Typ): 14V; Voltage - Breakdown (Min): 15.6V; Voltage - Clamping (Max) @ Ipp: 23.2V; Current - Peak Pulse (10/1000µs): 17.2A; Power - Peak Pulse: 400W; Power Line Protection: No; Supplier 1: Digi-Key; Manufacturer Part Number: SMAJ14A; RoHS: RoHS Compliant; Category: Circuit Protection; Stock 1: 42648; Pricing 1: 1=0.43, 10=0.36, 25=0.3156, 100=0.2701, 250=0.23424, 500=0.1984, 1000=0.15295, 2500=0.13984 (USD); Packaging: Cut Tape (CT); Bidirectional Channels: -; Applications: General Purpose; Capacitance @ Frequency: -; Operating Temperature: -55°C ~ 150°C (TJ); Mounting Type: Surface Mount; Package / Case: DO-214AC, SMA; Supplier Device Package: DO-214AC (SMA); ComponentLink1URL: http://www.littelfuse.com/~/media/electronics/datasheets/tvs_diodes/littelfuse_tvs_diode_smaj_datasheet.pdf.pdf; ComponentLink1Description: http://www.littelfuse.com/~/media/electronics/datasheets/tvs_diodes/littelfuse_tvs_diode_smaj_datasheet.pdf.pdf; Supplier Part Number 1: SMAJ14ALFCT-ND
footprint SMA
pins: 1 A, 2 K

## SN65176
designator U?
RS485 Transceiver
footprint SOIC8 (SOIC, 8-Leads, Body 6,20x5,30mm, Pitch 1,27mm, IPC Medium Density)
pins: 1 R, 2 ~{RE}, 3 DE, 4 D, 5 GND, 6 A, 7 B, 8 VCC

## STM32F030K6T6
designator U?
ARM Cortex-M0 32-bit MCU, 32 KB Flash, 4 KB Internal RAM, 26 I/Os, 32-pin LQFP, -40 to 85 degC, Tray; PartNumber: STM32F030K6T6; FLASH Size (Prog) (kB): 32; I/Os (High Current): 26; Internal RAM Size (kB): 4; Operating Frequency(F) (Processor speed) (MHz): 48; Supply Voltage(Vcc) min (V): 2.4; DatasheetVersion: Rev. 1; PackageVersion: Rev. 1, 07/2013; PackageReference: LQFP32; PackageDescription: 32-Pin Low Profile Quad Flat Package, 7 x 7 mm Body, 0.8 mm Pitch; Supplier 1: Digi-Key; Supplier Part Number 1: 497-14046-ND; Supplier 2: Newark; Supplier Part Number 2: 19X6194; Supplier 3: Mouser; Supplier Part Number 3: 511-STM32F030K6T6; Core: ARM Cortex-M0; Packing: Tray; Mounting Technology: Surface Mount; ComponentLink1Description: Manufacturer URL; ComponentLink1URL: http://www.st.com/web/en/home.html; ComponentLink2Description: Datasheet; ComponentLink2URL: http://www.st.com/st-web-ui/static/active/en/resource/technical/document/datasheet/DM00088500.pdf; ComponentLink3Description: Package Specification; ComponentLink3URL: http://www.st.com/st-web-ui/static/active/en/resource/technical/document/datasheet/DM00088500.pdf
footprint STM-LQFP32_N (QFP, 32-Leads, Body 7x7mm, Pitch 0.8mm, IPC Medium Density)
footprint STM-LQFP32_L (QFP, 32-Leads, Body 7x7mm, Pitch 0.8mm, IPC High Density)
footprint STM-LQFP32_M (QFP, 32-Leads, Body 7x7mm, Pitch 0.8mm, IPC Low Density)
part A pins: 2 PF0-OSC_IN(PF0) (io) "PF0-OSC_IN(PF0)/OSC_IN", 3 PF1-OSC_OUT(PF1) (io) "PF1-OSC_OUT(PF1)/OSC_OUT", 4 NRST (io) "Device reset input / internal reset output (active low)", 6 PA0 (io) "PA0/USART1_CTS/ADC_IN0,RTC_TAMP2,WKUP1", 7 PA1 (io) "PA1/USART1_RTS,EVENTOUT/ADC_IN1", 8 PA2 (io) "PA2/USART1_TX/ADC_IN2", 9 PA3 (io) "PA3/USART1_RX/ADC_IN3", 10 PA4 (io) "PA4/SPI1_NSS,USART1_CK,TIM14_CH1/ADC_IN4", 11 PA5 (io) "PA5/SPI1_SCK/ADC_IN5", 12 PA6 (io) "PA6/SPI1_MISO,TIM3_CH1,TIM1_BKIN,TIM16_CH1,EVENTOUT/ADC_IN6", 13 PA7 (io) "PA7/SPI1_MOSI,TIM3_CH2,TIM14_CH1,TIM1_CH1N,TIM17_CH1,EVENTOUT/ADC_IN7", 14 PB0 (io) "PB0/TIM3_CH3,TIM1_CH2N,EVENTOUT/ADC_IN8", 15 PB1 (io) "PB1/TIM3_CH4,TIM14_CH1,TIM1_CH3N/ADC_IN9", 18 PA8 (io) "PA8/USART1_CK,TIM1_CH1,EVENTOUT,MCO", 19 PA9 (io) "PA9/USART1_TX,TIM1_CH2,I2C1_SCL", 20 PA10 (io) "PA10/USART1_RX,TIM1_CH3,TIM17_BKIN,I2C1_SDA", 21 PA11 (io) "PA11/USART1_CTS,TIM1_CH4,EVENTOUT", 22 PA12 (io) "PA12/USART1_RTS,TIM1_ETR,EVENTOUT", 23 PA13(SWDIO) (io) "PA13(SWDIO)/IR_OUT,SWDIO", 24 PA14(SWCLK) (io) "PA14(SWCLK)/USART1_TX,SWCLK", 25 PA15 (io) "PA15/SPI1_NSS,USART1_RX,EVENTOUT", 26 PB3 (io) "PB3/SPI1_SCK,EVENTOUT", 27 PB4 (io) "PB4/SPI1_MISO,TIM3_CH1,EVENTOUT", 28 PB5 (io) "PB5/SPI1_MOSI,I2C1_SMBA,TIM16_BKIN,TIM3_CH2", 29 PB6 (io) "PB6/I2C1_SCL,USART1_TX,TIM16_CH1N", 30 PB7 (io) "PB7/I2C1_SDA,USART1_RX,TIM17_CH1N", 31 BOOT0 (in) "Boot memory selection"
part B pins: 1 VDD (power) "Digital power supply", 5 VDDA (power) "Analog power supply", 16 VSS (power) "Ground", 17 VDD (power) "Digital power supply", 32 VSS (power) "Ground"

## TC58BVG0S3HBAI6
designator U?
1Gbit Nand Flash
footprint BGA67
pins: B2 ~{WP}, B3 ALE, B4 VSS, B5 ~{CE}, B6 ~{WE}, B7 R~{B}, C3 ~{RE}, C4 CLE, G3 IO0, G7 VCC, H3 IO1, H5 VCC, H6 IO5, H7 IO7, J2 VSS, J3 IO2, J4 IO3, J5 IO4, J6 IO6, J7 VSS

## TCR3DF10,LM
designator U?
1V LDO
footprint SOT23-5
pins: 1 VIN, 2 GND (power), 3 CE, 4 NC, 5 VOUT (power)

## Test point
designator *  (value not drawn)
footprint Testpoint_35_50
pins: 1

## TLK105L
designator U?
Single Port 10/100 Mb/s Ethernet Physical Layer Transceiver; GROUP: ETH_TLK
footprint QFN32
part A pins: 1 RXD_3/PHYAD4 (hiz) "RECEIVE DATA: Symbols received on the cable are decoded and presented on these pins synchronous to RX_CLK. [see datasheet]", 2 TX_CLK (hiz) "MII TRANSMIT CLOCK: this clock has constant phase referenced to REF_CLK.", 3 TX_EN "TRANSMIT ENABLE: MII_TX_EN is presented on the rising edge of the MII_TX_CLK . [see datasheet]", 4 TXD_0 "TRANSMIT DATA: In MII mode, it is the transmit data nibble received from the MAC that is synchronous to the rising edge of the TX_CLK signal. [see datasheet]", 5 TXD_1 "TRANSMIT DATA: In MII mode, it is the transmit data nibble received from the MAC that is synchronous to the rising edge of the TX_CLK signal. [see datasheet]", 6 TXD_2 "TRANSMIT DATA: In MII mode, it is the transmit data nibble received from the MAC that is synchronous to the rising edge of the TX_CLK signal. [see datasheet]", 7 TXD_3 "TRANSMIT DATA: In MII mode, it is the transmit data nibble received from the MAC that is synchronous to the rising edge of the TX_CLK signal. [see datasheet]", 8 ~{PWR_DWN}/~{INTN} (io) "Register access is required for this pin to be configured either as power down or as an interrupt. The default function of this pin is power down[see datasheet]", 9 RD- (io) "Differential receive input (PMD Input Pair). These differential inputs are automatically configured to accept either 100Base-TX or 10Base-T signaling. [see datasheet]", 10 RD+ (io) "Differential receive input (PMD Input Pair). These differential inputs are automatically configured to accept either 100Base-TX or 10Base-T signaling. [see datasheet]", 11 TD- (io) "Differential common driver transmit output (PMD Output Pair). These differential outputs are automatically configured to either 10Base-T or 100Base-TX signaling. [see datasheet]", 12 TD+ (io) "Differential common driver transmit output (PMD Output Pair). These differential outputs are automatically configured to either 10Base-T or 100Base-TX signaling. [see datasheet]", 16 RBIAS "Bias Resistor Connection. Use a 4.87k ohm 1% resistor connected from RBIAS to GND.", 17 LED_LINK/AN0 (hiz) "LED Pin to indicate status.[see datasheet]", 18 RESETN (in) "This pin is an active-low reset input that initializes or re-initializes all the internal registers of the. [see datasheet]", 19 MDIO (io) "MANAGEMENT DATA I/O: Bidirectional command / data signal synchronized to MDC. Either the local controller or the TLK110 may drive the MDIO signal. [see datasheet]", 20 MDC (in) "MANAGEMENT DATA CLOCK: Clock signal for the management data input/output (MDIO) interface. The maximum MDC rate is 25 MHz; there is no minimum MDC rate. [see datasheet]", 22 XO "CRYSTAL OUTPUT: Reference Clock output. XO pin is used for crystal only. This pin should be left floating when an oscillator input is connected to XI.", 23 XI "MII reference clock Reference clock.  It must be connected to a 50MHz +/-50ppm-tolerance CMOS-level oscillator source.", 25 RX_CLK (hiz) "RECEIVE CLOCK: In MII mode it is the receive clock that provides either a 25MHz or 2.5MHz reference clock, depending on the speed, that is derived from the received data stream", 26 RX_DV/MII_MODE (hiz) "RECEIVE DATA VALID: This pin indicates valid data is present on the RXD [3:0] for MII mode or on RXD [1:0] for RMII mode, independently from Carrier Sense.", 27 CRS/CRS_DV/LED_CFG (hiz) "CARRIER SENSE: In MII mode this pin is asserted high when the receive medium is non-idle. this pin combines the RMII Carrier and Receive Data Valid indications.", 28 RX_ER/AMDIX_EN (hiz) "RECEIVE ERROR: This pin indicates that an error symbol has been detected within a received packet in both MII and RMII mode. [see datasheet]", 29 COL/PHYAD0 (hiz) "COLLISION DETECT: For MII mode in Full Duplex Mode this pin is always low.This pin is not used in RMII mode.[see datasheet]", 30 RXD_0/PHYAD1 (hiz) "RECEIVE DATA: Symbols received on the cable are decoded and presented on these pins synchronous to RX_CLK. [see datasheet]", 31 RXD_1/PHYAD2 (hiz) "RECEIVE DATA: Symbols received on the cable are decoded and presented on these pins synchronous to RX_CLK. [see datasheet]", 32 RXD_2/PHYAD3 (hiz) "RECEIVE DATA: Symbols received on the cable are decoded and presented on these pins synchronous to RX_CLK. [see datasheet]"
part B pins: 13 PFBIN1 (in), 14 AVDD33 (power) "Analog 3.3V power supply", 15 PFBOUT (out), 21 VDD33_IO (power) "I/O 3.3V Supply", 24 PFBIN2 (in), EP GND (power) "Analog ground"

## TPS562209DDCR
designator U?
footprint SOT6 (SOT23, 6-Leads, Body 2,90x2,80mm, Pitch 0,95mm, IPC Medium Density)
pins: 1 GND (power), 2 SW (power), 3 VIN (power), 4 VFB (power), 5 EN (power), 6 VBST (power)

## TRJES101DNL
designator X?  (value not drawn)
RJ45 SMD Horizontal Connector
footprint TRJES101DNL
pins: 1 (power), 2 (power), 3 (power), 4 (power), 5 (power), 6 (power), 7 (power), 8 (power), FR Frame (power)

## USB
designator X?
USB Connector
footprint USBA SMD (USB SMT (1).pdf from Jinglai)
pins: 1 Vbus, 2 D-, 3 D+, 4 GND, S Shield

## XW-66-SMT 8321 8P8C-B
designator X?  (value not drawn)
RJ45 SMD Horizontal Connector
footprint XW-66-SMT 8321 8P8C-B
pins: 1 (power), 2 (power), 3 (power), 4 (power), 5 (power), 6 (power), 7 (power), 8 (power), FR Frame (power)

## XWT-1104FS003
designator T?
XW LAN Transformer
footprint XWT-1104FS003 (XW LAN Transformer)
pins: 1 TD+ (power), 2 TCT (power), 3 TD- (power), 6 RD+ (power), 7 RCT (power), 8 RD- (power), 9 RX- (power), 10 RXCT (power), 11 RX+ (power), 14 TX- (power), 15 TXCT (power), 16 TX+ (power)